# EAGLE library part 535512-06_S (library con-tyco-modu)
RECEPTACAL
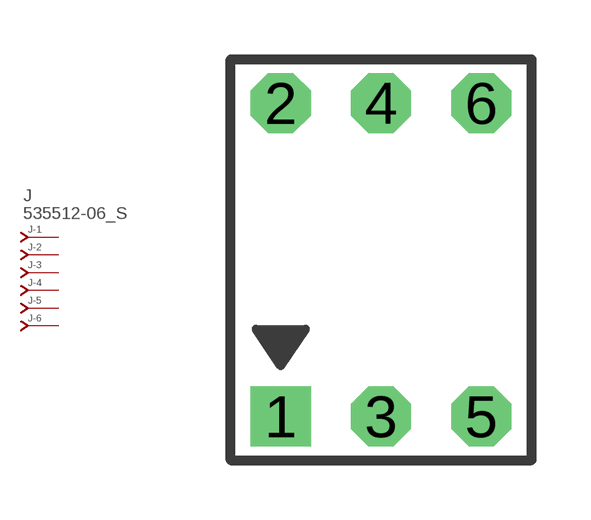
[diagram p12: symbol with the pads of 535512-06; footprint 535512-06]

Designator prefix J; gates -1=J-NV -2=J-N -3=J-N -4=J-N -5=J-N -6=J-N

## 535512-06_S  [535512-06]
1  -1:J  pas
2  -2:J  pas
3  -3:J  pas
4  -4:J  pas
5  -5:J  pas
6  -6:J  pas

## Footprint 535512-06 (pad centres in mm)
AMPMODU - 535512 Series
drill 1.016 square: 1 -2.54,0
drill 1.016 octagon: 2 -2.54,7.938; 3 0,0; 4 0,7.938; 5 2.54,0; 6 2.54,7.938